# Altium footprint library SS54B.PcbLib: 1 footprints
Each footprint in its own frame and in the unit in brackets; x right, y up, seen from the top. Pads: shape width x height; smd on the part's side, far side on the other; paste and mask are expansions set on the pad; w line width, h text height; cw(c..) or ccw(c..) is an arc to the next point about the centre after c.
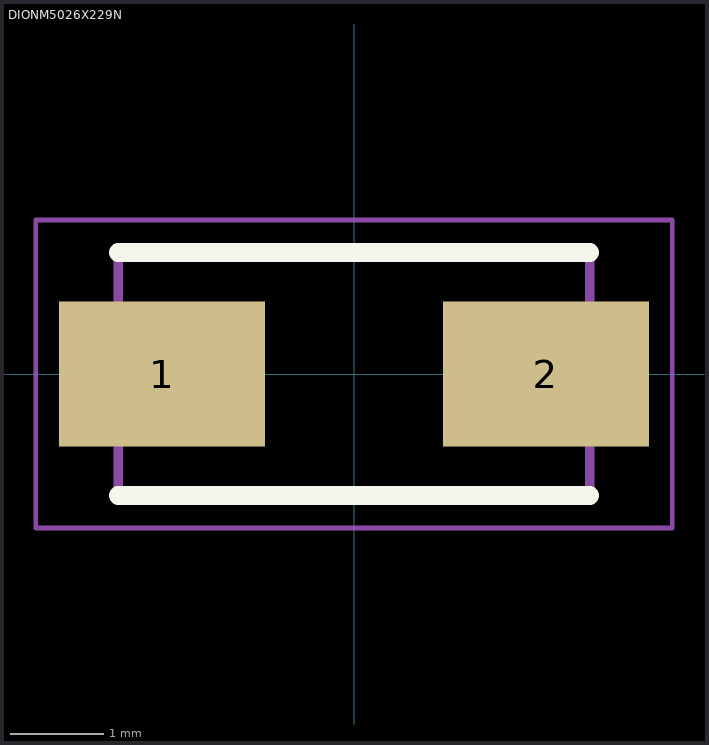
[diagram p0: the footprint, top view; thin cyan lines are the x and y axes]

## DIONM5026X229N [mm]
pads (2):
  rect 2.2x1.55 smd: 1(-2.05,0) 2(2.05,0)
Top Overlay:
  lines w0.2: -2.52,-1.298 2.52,-1.298 ; -2.52,1.298 2.52,1.298
Mechanical 13:
  lines w0.1: -2.52,-1.298 -2.52,1.298 2.52,1.298 2.52,-1.298 -2.52,-1.298
Mechanical 15:
  lines w0.05: -3.4,-1.645 -3.4,1.645 3.4,1.645 3.4,-1.645 -3.4,-1.645
3D body "SMAJ24CA.stp": height 2.29, standoff 0, extent -2.52,-1.298 2.52,1.298